# EAGLE library part LM25117_PWP_20 (library lm25117)
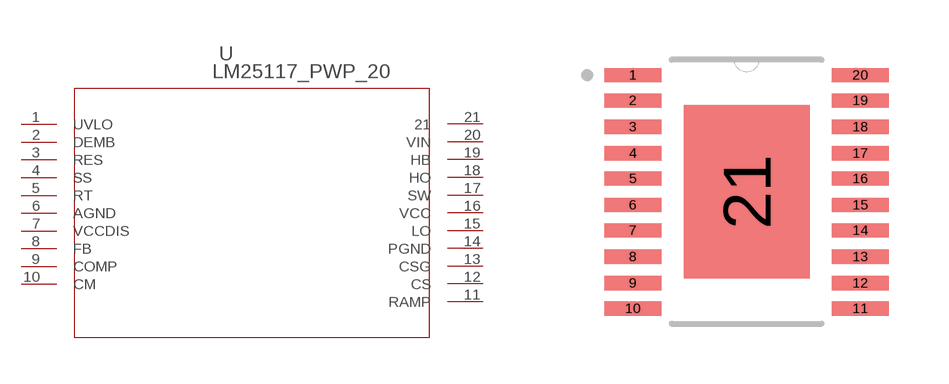
[diagram p0: symbol with the pads of MXA20A; footprint MXA20A]

Designator prefix U

## LM25117_PWP_20 (BASEPN: LM25117; DATASHEETURL: http://www.ti.com/lit/ds/symlink/lm25117.pdf; DESCRIPTION: Wide Input Range Synchronous Buck Controller with Analog Current Monitor; MANUFACTURER: Texas Instruments; MANUFACTURER_PART_NUMBER: lm25117_pwp_20; NSC_PACKAGEREFERENCE: MXA20A; VENDOR: Texas Instruments)  [MXA20A]
1  UVLO  pas
2  DEMB  in
3  RES  pas
4  SS  pas
5  RT  pas
6  AGND  pwr
7  VCCDIS  in
8  FB  in
9  COMP  out
10  CM  out
11  RAMP  pas
12  CS  in
13  CSG  pas
14  PGND  pwr
15  LO  out
16  VCC  pwr
17  SW  pas
18  HO  out
19  HB  pas
20  VIN  in
21  21  pas

## Footprint MXA20A (pad centres in mm)
smd 1.422 x 0.356: 1 -2.845,2.921; 2 -2.845,2.286; 3 -2.845,1.626; 4 -2.845,0.965; 5 -2.845,0.33; 6 -2.845,-0.33; 7 -2.845,-0.965; 8 -2.845,-1.626; 9 -2.845,-2.286; 10 -2.845,-2.921; 11 2.845,-2.921; 12 2.845,-2.286; 13 2.845,-1.626; 14 2.845,-0.965; 15 2.845,-0.33; 16 2.845,0.33; 17 2.845,0.965; 18 2.845,1.626; 19 2.845,2.286; 20 2.845,2.921
smd 3.15 x 4.343: 21 0,0